# EAGLE library part USB-MINI (library dan-pc)
Mini-USB
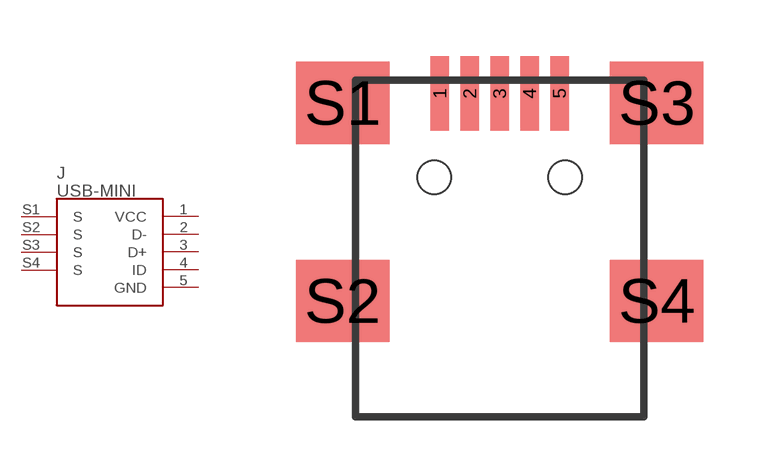
[diagram p3: symbol with the pads of USB-MINI-B; footprint USB-MINI-B]

Designator prefix J

## USB-MINI  [USB-MINI-B]
1  VCC  pas
2  D-
3  D+
4  ID  pas
5  GND  pas
S1  S  pas
S2  S  pas
S3  S  pas
S4  S  pas

## Footprint USB-MINI-B (pad centres in mm)
Mini-USB For Hirose UX60-MB-5ST (Metal Shield SMT Type With Positioning Post) From http://www.hirose.co.jp/cataloge_hp/e24000019.pdf
smd 0.5 x 2: 1 -1.6,2.25; 2 -0.8,2.25; 3 0,2.25; 4 0.8,2.25; 5 1.6,2.25
smd 2.5 x 2.2: S1 -4.2,2; S2 -4.2,-3.3; S3 4.2,2; S4 4.2,-3.3
hole 0.9 at -1.75,0
hole 0.9 at 1.75,0